# Altium footprint library LTM8054 BGA 05-12-1928.PcbLib: 1 footprints
Each footprint in its own frame and in the unit in brackets; x right, y up, seen from the top. Pads: shape width x height; smd on the part's side, far side on the other; paste and mask are expansions set on the pad; w line width, h text height; cw(c..) or ccw(c..) is an arc to the next point about the centre after c.
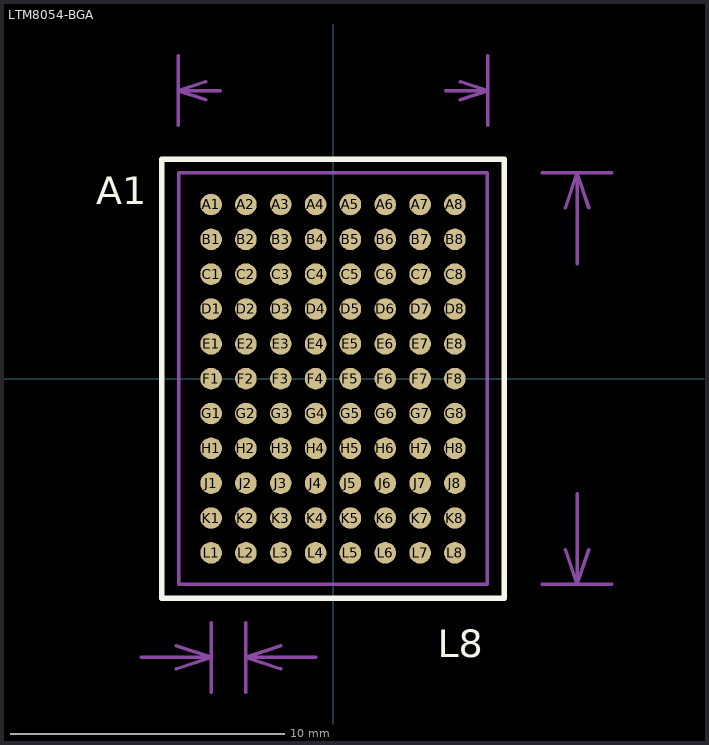
[diagram p0: the footprint, top view; thin cyan lines are the x and y axes]

## LTM8054-BGA [mil]
pads (88):
  round 31 smd paste-3.5 mask-3: A1(-175,250) A2(-125,250) A3(-75,250) A4(-25,250) A5(25,250) A6(75,250) A7(125,250) A8(175,250) B1(-175,200) B2(-125,200) B3(-75,200) B4(-25,200) B5(25,200) B6(75,200) B7(125,200) B8(175,200) C1(-175,150) C2(-125,150) C3(-75,150) C4(-25,150) C5(25,150) C6(75,150) C7(125,150) C8(175,150) D1(-175,100) D2(-125,100) D3(-75,100) D4(-25,100) D5(25,100) D6(75,100) D7(125,100) D8(175,100) E1(-175,50) E2(-125,50) E3(-75,50) E4(-25,50) E5(25,50) E6(75,50) E7(125,50) E8(175,50) F1(-175,0) F2(-125,0) F3(-75,0) F4(-25,0) F5(25,0) F6(75,0) F7(125,0) F8(175,0) G1(-175,-50) G2(-125,-50) G3(-75,-50) G4(-25,-50) G5(25,-50) G6(75,-50) G7(125,-50) G8(175,-50) H1(-175,-100) H2(-125,-100) H3(-75,-100) H4(-25,-100) H5(25,-100) H6(75,-100) H7(125,-100) H8(175,-100) J1(-175,-150) J2(-125,-150) J3(-75,-150) J4(-25,-150) J5(25,-150) J6(75,-150) J7(125,-150) J8(175,-150) K1(-175,-200) K2(-125,-200) K3(-75,-200) K4(-25,-200) K5(25,-200) K6(75,-200) K7(125,-200) K8(175,-200) L1(-175,-250) L2(-125,-250) L3(-75,-250) L4(-25,-250) L5(25,-250) L6(75,-250) L7(125,-250) L8(175,-250)
Top Overlay:
  lines w8: -246.06,-314.96 246.06,-314.96 246.06,314.96 -246.06,314.96 -246.06,-314.96
  text "A1" at -340,250 h40
  text "L8" at 150,-400 h40
Mechanical 16:
  lines w5: -275,-400 -175,-400 ; -225,-416.67 -175,-400 ; -225,-383.33 -175,-400 ; -222.17,363.39 -222.17,463.39 ; -182.8,400.26 -222.17,413.39 ; -182.8,426.51 -222.17,413.39 ; -175,-450 -175,-350 ; -161.67,413.39 -222.17,413.39 ; -125,-450 -125,-350 ; -75,-416.67 -125,-400 ; -75,-383.33 -125,-400 ; -25,-400 -125,-400 ; 161.67,413.39 222.17,413.39 ; 182.8,400.26 222.17,413.39 ; 182.8,426.51 222.17,413.39 ; 222.17,363.39 222.17,463.39 ; 300.28,-295.28 400.28,-295.28 ; 300.28,295.28 400.28,295.28 ; 333.61,-245.28 350.28,-295.28 ; 333.61,245.28 350.28,295.28 ; 350.28,-164.95 350.28,-295.28 ; 350.28,164.95 350.28,295.28 ; 366.94,-245.28 350.28,-295.28 ; 366.94,245.28 350.28,295.28 ; -221.46,-295.28 -221.46,295.28 221.46,295.28 221.46,-295.28 -221.46,-295.28
  text "11.25 (mm)" at -170,390 h30
  text "15 (mm)" at 380.27,-154.95 h50
  text "1.27 (mm)" at -350.77,-519.97 h50